# EAGLE library part FLASH_S25FL128P (library mainboard)
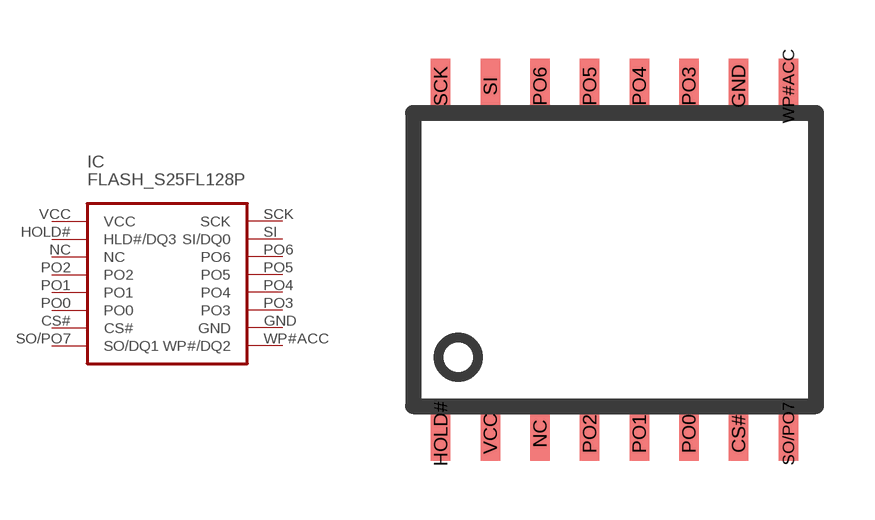
[diagram p9: symbol with the pads of FLASH_S25FL128P; footprint FLASH_S25FL128P]

Designator prefix IC

## FLASH_S25FL128P  [FLASH_S25FL128P]
CS#  CS#
GND  GND
HOLD#  HLD#/DQ3
NC  NC  nc
PO0  PO0
PO1  PO1
PO2  PO2
PO3  PO3
PO4  PO4
PO5  PO5
PO6  PO6
SCK  SCK
SI  SI/DQ0
SO/PO7  SO/DQ1
VCC  VCC
WP#ACC  WP#/DQ2

## Footprint FLASH_S25FL128P (pad centres in mm)
smd 0.5 x 1.4: CS# 3.175,-4.45; GND 3.175,4.44; HOLD# -4.445,-4.45; NC -1.905,-4.45; PO0 1.905,-4.45; PO1 0.635,-4.45; PO2 -0.635,-4.45; PO3 1.905,4.44; PO4 0.635,4.44; PO5 -0.635,4.44; PO6 -1.905,4.44; SCK -4.445,4.44; SI -3.175,4.44; SO/PO7 4.445,-4.45; VCC -3.175,-4.45; WP#ACC 4.445,4.44